# Altium footprint library CON IP5-04-5.0-x-S-1.PcbLib: 1 footprints
Each footprint in its own frame and in the unit in brackets; x right, y up, seen from the top. Pads: shape width x height; smd on the part's side, far side on the other; paste and mask are expansions set on the pad; w line width, h text height; cw(c..) or ccw(c..) is an arc to the next point about the centre after c.
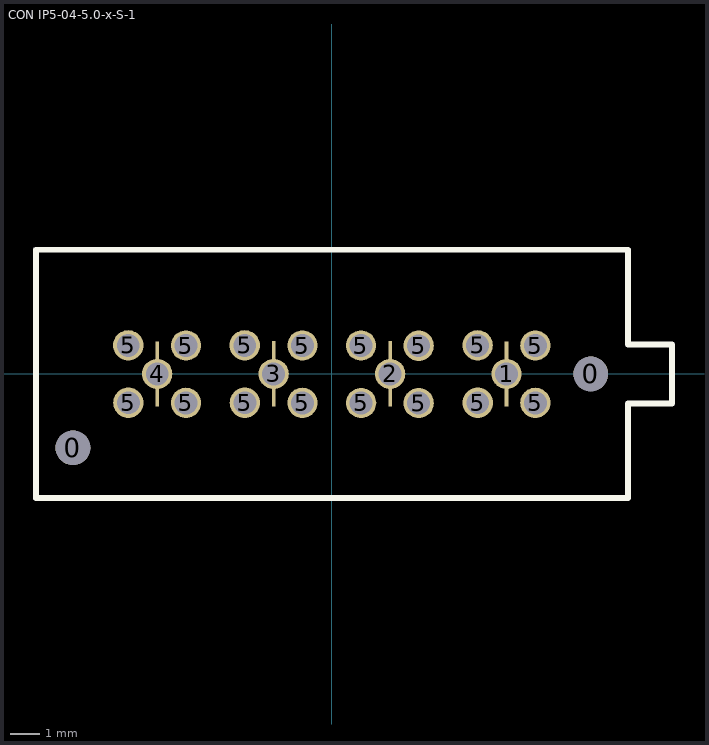
[diagram p0: the footprint, top view; thin cyan lines are the x and y axes]

## CON IP5-04-5.0-x-S-1 [mil] "Samtec IP5-04-5.0-x-S-1 High Isolation Plugs"
height 358
pads (30):
  round 47 hole 47 unplated paste+0 mask+0: 0(-350.25,-100) 0(350.25,0)
  rect 5x28.5 smd: 1(236.25,-29.75) 1(236.25,29.75) 2(78.75,-29.55) 2(78.75,29.95) 3(-78.75,-29.55) 3(-78.75,29.95) 4(-236.25,-29.75) 4(-236.25,29.75)
  round 41 hole 31: 1(236.25,0) 2(78.75,0) 3(-78.75,0) 4(-236.25,0) 5(-275.4,38.7) 5(-275.25,-39) 5(-197.35,-39.1) 5(-197.35,38.4) 5(-117.9,38.7) 5(-117.75,-39) 5(-39.85,-39.1) 5(-39.85,38.4) 5(39.35,38.4) 5(39.5,-39.3) 5(117.4,-39.4) 5(117.4,38.1) 5(197.1,38.7) 5(197.25,-39) 5(275.15,-39.1) 5(275.15,38.4)
TopOverlay:
  lines w8: -400.45,-168.2 -400.45,167.8 -400.25,168 400.25,168 400.25,40 460.25,40 460.25,-40 400.25,-40 400.25,-168 -400.25,-168
3D body: height 130, standoff 0, extent 400,-40 460,40
3D body: height 358.1, standoff 0, extent -400,-168 400,168